# Altium footprint library Connectors.PcbLib: 25 footprints (part 1 of 2)
Each footprint in its own frame and in the unit in brackets; x right, y up, seen from the top. Pads: shape width x height; smd on the part's side, far side on the other; paste and mask are expansions set on the pad; w line width, h text height; cw(c..) or ccw(c..) is an arc to the next point about the centre after c.
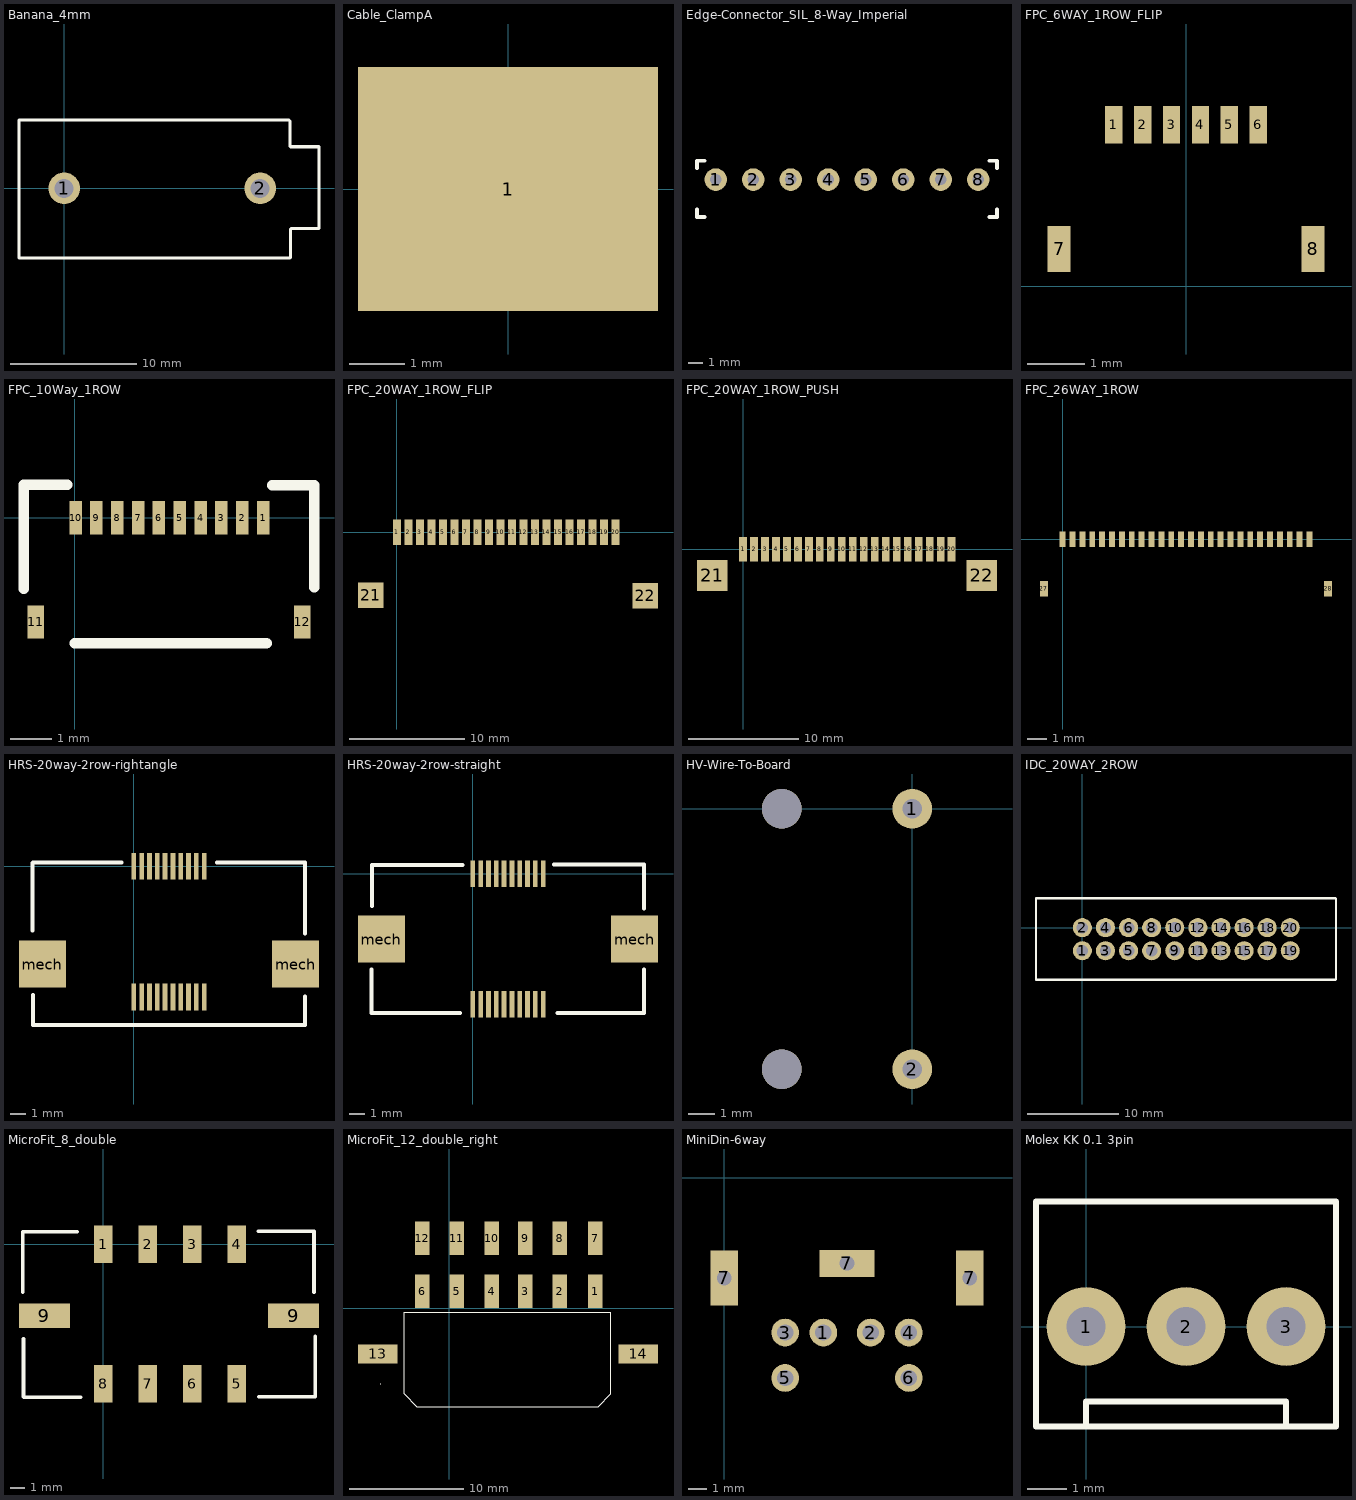
[diagram p0: the footprints below, top view; thin cyan lines are the x and y axes]

## Banana_4mm [mm] "PCB mount 4mm bananna connector"
pads (2):
  round 2.5 hole 1.5: 1(0,0) 2(15.5,0)
Top Overlay:
  lines w0.254: -3.57,-5.5 17.85,-5.5 17.9,-5.45 17.9,-3.22 17.95,-3.17 20.15,-3.17 20.15,3.25 20.15,3.29 17.9,3.29 17.86,3.33 17.86,5.31 17.77,5.4 -3.57,5.4 -3.57,-5.41 -3.57,-5.5
3D body: height 12.6, standoff 0.3, extent -3.52,-5.5 17.89,5.41
3D body: height 9.4, standoff 3, extent 17.9,-3.16 20.13,3.27

## Cable_ClampA [mm]
pads (1):
  rect 5.4x4.4 smd: 1(0,0)
3D body "s8101-46r.stp": height 1.5, standoff 0, extent -2.49,-2.05 2.51,2.05

## Edge-Connector_SIL_8-Way_Imperial [mil]
pads (8):
  round 60 hole 30: 1(-49900,-49800) 2(-49800,-49800) 3(-49700,-49800) 4(-49600,-49800) 5(-49500,-49800) 6(-49400,-49800) 7(-49300,-49800) 8(-49200,-49800)
Top Overlay:
  lines w10: -49950,-49880 -49950,-49900 -49930,-49900 ; -49950,-49770 -49950,-49750 -49930,-49750 ; -49170,-49900 -49150,-49900 -49150,-49880 ; -49170,-49750 -49150,-49750 -49150,-49770

## FPC_6WAY_1ROW_FLIP [mm]
pads (8):
  rect 0.3x0.65 smd: 1(-1.25,2.8) 2(-0.75,2.8) 3(-0.25,2.8) 4(0.25,2.8) 5(0.75,2.8) 6(1.25,2.8)
  rect 0.4x0.8 smd: 7(-2.2,0.65) 8(2.2,0.65)
3D body "FH33-6S-0.5SH.stp": height 1.2, standoff -0.02, extent -2.5,-0.05 2.5,2.95

## FPC_10Way_1ROW [mm]
pads (12):
  rect 0.3x0.8 smd: 1(4.52,0) 2(4.02,0) 3(3.52,0) 4(3.02,0) 5(2.52,0) 6(2.02,0) 7(1.52,0) 8(1.02,0) 9(0.52,0) 10(0.02,0)
  rect 0.4x0.8 smd: 11(-0.94,-2.5) 12(5.46,-2.5)
Top Overlay:
  lines w0.254: -1.23,-1.7 -1.23,0.79 -0.18,0.79 ; 0,-3.01 4.6,-3.01 ; 4.74,0.78 5.75,0.78 5.75,-1.67
3D body "FH34SRJ-10S-0.5SH.stp": height 1, standoff 0, extent -1.24,-3 5.76,0.8

## FPC_20WAY_1ROW_FLIP [mm] "Hirose flip connector"
pads (22):
  rect 0.7x2.2 smd: 1(0,0) 2(1,0) 3(2,0) 4(3,0) 5(4,0) 6(5,0) 7(6,0) 8(7,0) 9(8,0) 10(9,0) 11(10,0) 12(11,0) 13(12,0) 14(13,0) 15(14,0) 16(15,0) 17(16,0) 18(17,0) 19(18,0) 20(19,0)
  rect 2.2x2.2 smd: 21(-2.28,-5.47) 22(21.59,-5.51)
3D body "FH28-40(20)SB-1SH.stp": height 2.6, standoff 0.05, extent -2.7,-6.8 22.2,0.4

## FPC_20WAY_1ROW_PUSH [mm] "Hirose flip connector"
pads (22):
  rect 0.7x2.2 smd: 1(0,0) 2(1,0) 3(2,0) 4(3,0) 5(4,0) 6(5,0) 7(6,0) 8(7,0) 9(8,0) 10(9,0) 11(10,0) 12(11,0) 13(12,0) 14(13,0) 15(14,0) 16(15,0) 17(16,0) 18(17,0) 19(18,0) 20(19,0)
  rect 2.8x2.8 smd: 21(-2.8,-2.38) 22(21.74,-2.38)
3D body "522072033.stp": height 2.75, standoff 0.05, extent -3.65,-8.27 22.65,0.63

## FPC_26WAY_1ROW [mm] "FPC Connector 26 way"
pads (28):
  rect 0.3x0.8 smd: 1(12.5,0) 2(12,0) 3(11.5,0) 4(11,0) 5(10.5,0) 6(10,0) 7(9.5,0) 8(9,0) 9(8.5,0) 10(8,0) 11(7.5,0) 12(7,0) 13(6.5,0) 14(6,0) 15(5.5,0) 16(5,0) 17(4.5,0) 18(4,0) 19(3.5,0) 20(3,0) 21(2.5,0) 22(2,0) 23(1.5,0) 24(1,0) 25(0.5,0) 26(0,0)
  rect 0.4x0.8 smd: 27(-0.95,-2.5) 28(13.44,-2.5)
3D body "FPC_26WAY_1ROW.stp": height 0.99, standoff -0.01, extent -1.26,-3 13.74,0.8

## HRS-20way-2row-rightangle [mm]
pads (22):
  rect 0.3x1.7 smd: 1(0,0) 2(0.5,0) 3(1,0) 4(1.5,0) 5(2,0) 6(2.5,0) 7(3,0) 8(3.5,0) 9(4,0) 10(4.5,0) 11(0,-8.35) 12(0.5,-8.35) 13(1,-8.35) 14(1.5,-8.35) 15(2,-8.35) 16(2.5,-8.35) 17(3,-8.35) 18(3.5,-8.35) 19(4,-8.35) 20(4.5,-8.35)
  rect 3x3 smd: mech(-5.83,-6.25) mech(10.33,-6.25)
Top Overlay:
  lines w0.254: -6.47,-4.11 -6.47,0.2 -6.43,0.24 -0.77,0.24 ; -6.45,-8.22 -6.45,-10.14 -6.44,-10.13 10.94,-10.13 10.94,-8.33 ; 5.31,0.24 10.93,0.24 10.94,0.23 10.94,-4.29
3D body "FX20-20S-0.5SH.stp": height 7.12, standoff -0.03, extent -6.45,-10.15 10.95,0.25

## HRS-20way-2row-straight [mm]
pads (22):
  rect 0.3x1.7 smd: 1(0,0) 2(0.5,0) 3(1,0) 4(1.5,0) 5(2,0) 6(2.5,0) 7(3,0) 8(3.5,0) 9(4,0) 10(4.5,0) 11(0,-8.35) 12(0.5,-8.35) 13(1,-8.35) 14(1.5,-8.35) 15(2,-8.35) 16(2.5,-8.35) 17(3,-8.35) 18(3.5,-8.35) 19(4,-8.35) 20(4.5,-8.35)
  rect 3x3 smd: mech(-5.83,-4.175) mech(10.33,-4.175)
Top Overlay:
  lines w0.254: -6.47,-6.11 -6.47,-8.91 -0.82,-8.91 ; -6.45,-2.07 -6.45,0.54 -6.43,0.56 -0.64,0.56 ; 5.18,0.59 10.91,0.59 10.93,0.57 10.93,-2.23 ; 5.42,-8.91 10.94,-8.91 10.94,-6.12
3D body "FX20-20P-0.5SV20.stp": height 18.3, standoff 0.1, extent -6.46,-8.92 10.94,0.58

## HV-Wire-To-Board [mil]
pads (4):
  round 60 hole 29.53: 1(0,-0.39) 2(0,-393.7)
  round 60 hole 60: ""(-196.85,-393.7) ""(-196.85,-0.39)

## IDC_20WAY_2ROW [mm]
pads (20):
  round 2.1 hole 1.25: 1(0,-2.54) 2(0,0) 3(2.54,-2.54) 4(2.54,0) 5(5.08,-2.54) 6(5.08,0) 7(7.62,-2.54) 8(7.62,0) 9(10.16,-2.54) 10(10.16,0) 11(12.7,-2.54) 12(12.7,0) 13(15.24,-2.54) 14(15.24,0) 15(17.78,-2.54) 16(17.78,0) 17(20.32,-2.54) 18(20.32,0) 19(22.86,-2.54) 20(22.86,0)
Top Overlay:
  lines w0.254: -5.1,-5.73 27.83,-5.73 27.89,-5.67 27.89,3.17 27.83,3.23 -5.1,3.23 -5.1,-5.73
3D body "702462004.stp": height 9.36, standoff -3.34, extent -5.09,-5.66 27.93,3.23

## MicroFit_8_double [mil] "Molex micro fit 3 range, 8 positions, two rows."
pads (10):
  rect 50x100 smd: 1(0,0) 2(118.11,0) 3(236.22,0) 4(354.33,0) 5(354.33,-370) 6(236.22,-370) 7(118.11,-370) 8(0,-370)
  rect 135x65 smd: 9(-156,-190) 9(505,-190)
Top Overlay:
  lines w10: -213.39,-126.77 -213.39,33.07 -69.29,33.07 ; -211.81,-250.79 -211.81,-404.33 -210.24,-405.91 -59.84,-405.91 ; 411.81,34.65 559.45,34.65 559.45,-126.38 ; 413.39,-404.33 562.6,-404.33 562.6,-244.49
3D body "4c_2r.stp": height 389.88, standoff -2.24, extent -211.8,-405.86 561.81,35.08

## MicroFit_12_double_right [mm]
pads (14):
  rect 1.27x2.92 smd: 1(12.72,1.478) 2(9.63,1.478) 3(6.63,1.478) 4(3.72,1.478) 5(0.63,1.478) 6(-2.37,1.478) 7(12.72,6.108) 8(9.63,6.108) 9(6.63,6.108) 10(3.72,6.108) 11(0.63,6.108) 12(-2.37,6.108)
  rect 3.43x1.65 smd: 13(-6.265,-3.992) 14(16.505,-3.992)
Top Overlay:
  lines w0.025: -6.015,-6.592 -5.99,-6.592
  lines w0.1: -3.937,-7.493 -2.838,-8.592 12.998,-8.592 14.097,-7.493 14.097,-0.381 -3.937,-0.381 -3.937,-7.493
3D body "MicroFit_right_12c_2r.stp": height 8.73, standoff -0.04, extent -7.743,-8.636 17.907,6.764

## MiniDin-6way [mm]
pads (9):
  round 1.524 hole 0.9: 1(5.45,-8.5) 2(8.05,-8.5) 3(3.35,-8.5) 4(10.15,-8.5) 5(3.35,-11) 6(10.15,-11)
  rect 1.5x3 hole 0.8 square unplated: 7(0,-5.5) 7(13.5,-5.5)
  rect 3x1.5 hole 0.8 square unplated: 7(6.75,-4.7)
3D body "Lumberg_TM_0508_A_06 v1.stp": height 12.8, standoff -3.5, extent -0.42,-13 13.92,0

## Molex KK 0.1 3pin [mm] "Molex through hole 0.1 pitch 3 pin"
height 10
pads (3):
  round 2 hole 1: 1(0,0) 2(2.54,0) 3(5.08,0)
Top Overlay:
  lines w0.15: 0,-2.54 0,-1.905 5.08,-1.905 5.08,-2.54 ; -1.27,-2.54 6.35,-2.54 6.35,3.175 -1.27,3.175 -1.27,0 -1.27,-2.54
3D body "molex kk 3 way 022232031.stp": height 10.08, standoff -4.14, extent -1.134,-3.05 6.334,3.3